# EAGLE library part HMC307 (library MSA_lib)
HMC307 Attenuator
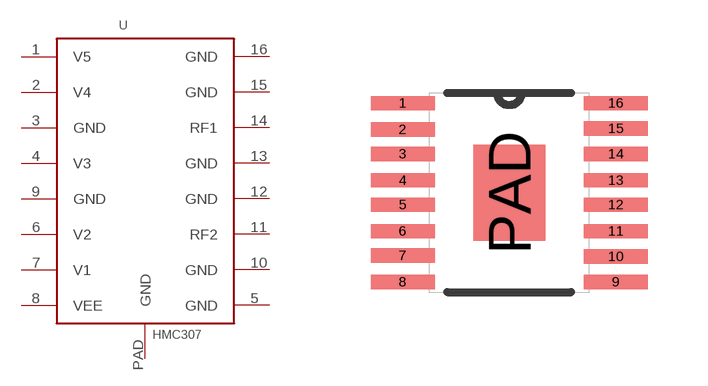
[diagram p18: symbol with the pads of QSOP16_PAD; footprint QSOP16_PAD]

Designator prefix U

## HMC307 (OC_DIGIKEY: 1127-1327-1-ND)  [QSOP16_PAD]
1  V5
2  V4
3  GND
4  V3
5  GND
6  V2
7  V1
8  VEE
9  GND
10  GND
11  RF2
12  GND
13  GND
14  RF1
15  GND
16  GND
PAD  GND

## Footprint QSOP16_PAD (pad centres in mm)
smd 1.6 x 0.356: 1 -2.667,2.235; 2 -2.667,1.575; 3 -2.667,0.965; 4 -2.667,0.305; 5 -2.667,-0.305; 6 -2.667,-0.965; 7 -2.667,-1.575; 8 -2.667,-2.235; 9 2.667,-2.235; 10 2.667,-1.6; 11 2.667,-0.965; 12 2.667,-0.305; 13 2.667,0.305; 14 2.667,0.965; 15 2.667,1.6; 16 2.667,2.235
smd 1.8 x 2.4: PAD 0,0